# Altium integrated library testing.IntLib: 2 symbols
Pins are listed as number, name and electrical type; pins without a type are passive.

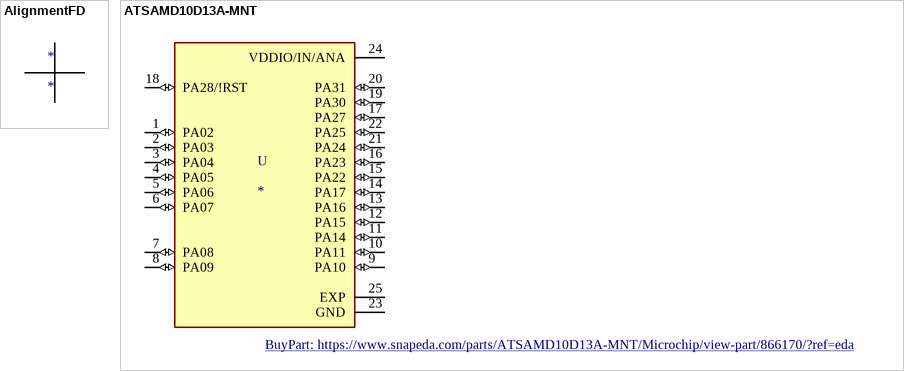
[diagram p0: symbols AlignmentFD to ATSAMD10D13A-MNT]

## AlignmentFD
designator *
footprint Alignment

## ATSAMD10D13A-MNT
designator U
ARMÂ® CortexÂ®-M0+ SAM D10D Microcontroller IC 32-Bit 48MHz 8KB (8K x 8) FLASH 24-QFN (4x4); MF: Microchip; MP: ATSAMD10D13A-MNT; Price: None; Value: *; Availability: Good; DigiKey-Purchase-URL: https://snapeda.com/shop?store=DigiKey&id=866170; Mouser-Purchase-URL: https://snapeda.com/shop?store=Mouser&id=866170; SnapEDA_Link: https://www.snapeda.com/parts/ATSAMD10D13A-MNT/Microchip/view-part/866170/?ref=snap; Package: QFN-24 Microchip; BuyPart: https://www.snapeda.com/parts/ATSAMD10D13A-MNT/Microchip/view-part/866170/?ref=eda
footprint QFN50P400X400X90-25N
pins: 1 PA02 (io), 2 PA03 (io), 3 PA04 (io), 4 PA05 (io), 5 PA06 (io), 6 PA07 (io), 7 PA08 (io), 8 PA09 (io), 9 PA10 (io), 10 PA11 (io), 11 PA14 (io), 12 PA15 (io), 13 PA16 (io), 14 PA17 (io), 15 PA22 (io), 16 PA23 (io), 17 PA27 (io), 18 PA28/!RST (io), 19 PA30 (io), 20 PA31 (io), 21 PA24 (io), 22 PA25 (io), 23 GND (power), 24 VDDIO/IN/ANA (power), 25 EXP